# Altium footprint library Diod.PcbLib: 392 footprints (part 15 of 25)
Each footprint in its own frame and in the unit in brackets; x right, y up, seen from the top. Pads: shape width x height; smd on the part's side, far side on the other; paste and mask are expansions set on the pad; w line width, h text height; cw(c..) or ccw(c..) is an arc to the next point about the centre after c.
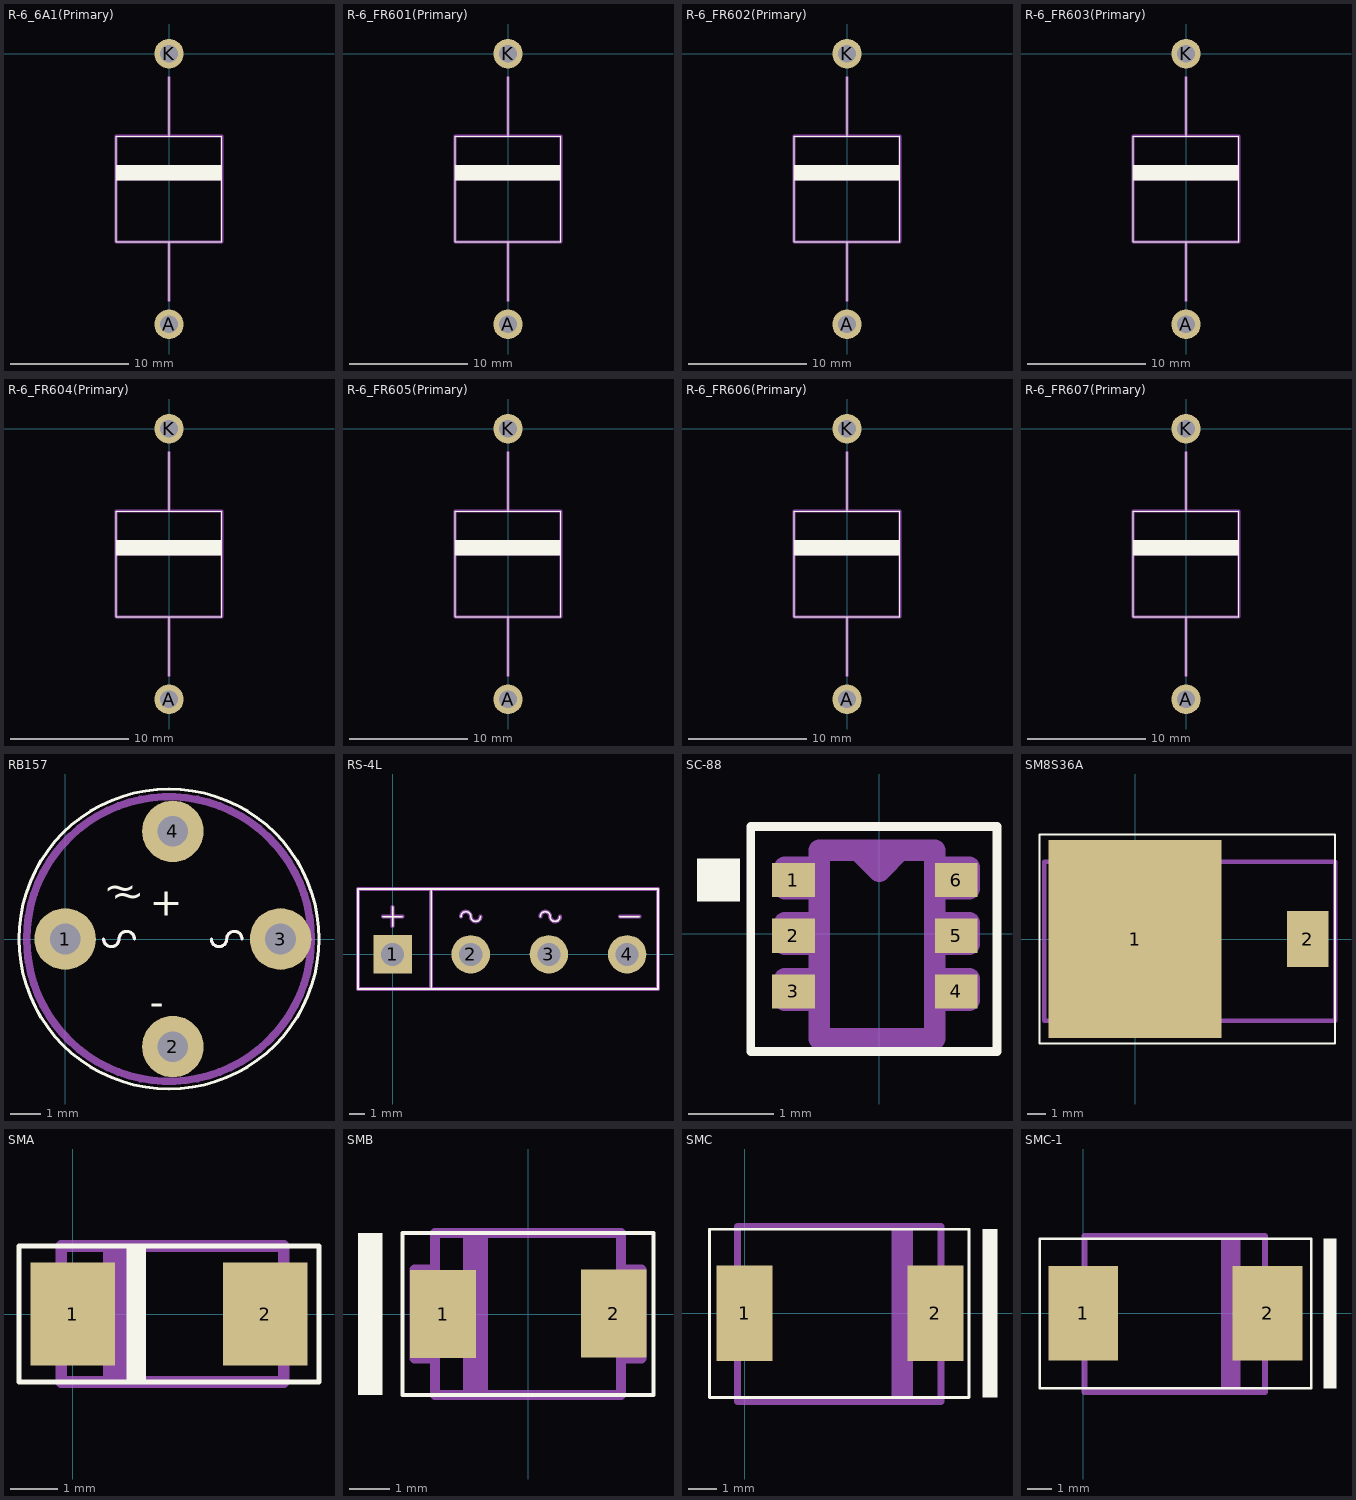
[diagram p14: the footprints below, top view; thin cyan lines are the x and y axes]

## R-6_6A1(Primary) [mm]
pads (2):
  round 2.5 hole 1.5: A(0,-23) K(0,0)
Top Overlay:
  region: -4.5,-10.75 4.5,-10.75 4.5,-9.5 -4.5,-9.5
  lines w0.1: 0,-21 0,-16 ; 0,-7 0,-2 ; -4.5,-16 4.5,-16 4.5,-7 -4.5,-7 -4.5,-16
Mechanical 1:
  region: -4.5,-10.75 4.5,-10.75 4.5,-9.5 -4.5,-9.5
  lines w0.25: 0,-21 0,-16 ; 0,-7 0,-2 ; -4.5,-16 4.5,-16 4.5,-7 -4.5,-7 -4.5,-16

## R-6_FR601(Primary) [mm]
pads (2):
  round 2.5 hole 1.5: A(0,-23) K(0,0)
Top Overlay:
  region: -4.5,-10.75 4.5,-10.75 4.5,-9.5 -4.5,-9.5
  lines w0.1: 0,-21 0,-16 ; 0,-7 0,-2 ; -4.5,-16 4.5,-16 4.5,-7 -4.5,-7 -4.5,-16
Mechanical 1:
  region: -4.5,-10.75 4.5,-10.75 4.5,-9.5 -4.5,-9.5
  lines w0.25: 0,-21 0,-16 ; 0,-7 0,-2 ; -4.5,-16 4.5,-16 4.5,-7 -4.5,-7 -4.5,-16

## R-6_FR602(Primary) [mm]
pads (2):
  round 2.5 hole 1.5: A(0,-23) K(0,0)
Top Overlay:
  region: -4.5,-10.75 4.5,-10.75 4.5,-9.5 -4.5,-9.5
  lines w0.1: 0,-21 0,-16 ; 0,-7 0,-2 ; -4.5,-16 4.5,-16 4.5,-7 -4.5,-7 -4.5,-16
Mechanical 1:
  region: -4.5,-10.75 4.5,-10.75 4.5,-9.5 -4.5,-9.5
  lines w0.25: 0,-21 0,-16 ; 0,-7 0,-2 ; -4.5,-16 4.5,-16 4.5,-7 -4.5,-7 -4.5,-16

## R-6_FR603(Primary) [mm]
pads (2):
  round 2.5 hole 1.5: A(0,-23) K(0,0)
Top Overlay:
  region: -4.5,-10.75 4.5,-10.75 4.5,-9.5 -4.5,-9.5
  lines w0.1: 0,-21 0,-16 ; 0,-7 0,-2 ; -4.5,-16 4.5,-16 4.5,-7 -4.5,-7 -4.5,-16
Mechanical 1:
  region: -4.5,-10.75 4.5,-10.75 4.5,-9.5 -4.5,-9.5
  lines w0.25: 0,-21 0,-16 ; 0,-7 0,-2 ; -4.5,-16 4.5,-16 4.5,-7 -4.5,-7 -4.5,-16

## R-6_FR604(Primary) [mm]
pads (2):
  round 2.5 hole 1.5: A(0,-23) K(0,0)
Top Overlay:
  region: -4.5,-10.75 4.5,-10.75 4.5,-9.5 -4.5,-9.5
  lines w0.1: 0,-21 0,-16 ; 0,-7 0,-2 ; -4.5,-16 4.5,-16 4.5,-7 -4.5,-7 -4.5,-16
Mechanical 1:
  region: -4.5,-10.75 4.5,-10.75 4.5,-9.5 -4.5,-9.5
  lines w0.25: 0,-21 0,-16 ; 0,-7 0,-2 ; -4.5,-16 4.5,-16 4.5,-7 -4.5,-7 -4.5,-16

## R-6_FR605(Primary) [mm]
pads (2):
  round 2.5 hole 1.5: A(0,-23) K(0,0)
Top Overlay:
  region: -4.5,-10.75 4.5,-10.75 4.5,-9.5 -4.5,-9.5
  lines w0.1: 0,-21 0,-16 ; 0,-7 0,-2 ; -4.5,-16 4.5,-16 4.5,-7 -4.5,-7 -4.5,-16
Mechanical 1:
  region: -4.5,-10.75 4.5,-10.75 4.5,-9.5 -4.5,-9.5
  lines w0.25: 0,-21 0,-16 ; 0,-7 0,-2 ; -4.5,-16 4.5,-16 4.5,-7 -4.5,-7 -4.5,-16

## R-6_FR606(Primary) [mm]
pads (2):
  round 2.5 hole 1.5: A(0,-23) K(0,0)
Top Overlay:
  region: -4.5,-10.75 4.5,-10.75 4.5,-9.5 -4.5,-9.5
  lines w0.1: 0,-21 0,-16 ; 0,-7 0,-2 ; -4.5,-16 4.5,-16 4.5,-7 -4.5,-7 -4.5,-16
Mechanical 1:
  region: -4.5,-10.75 4.5,-10.75 4.5,-9.5 -4.5,-9.5
  lines w0.25: 0,-21 0,-16 ; 0,-7 0,-2 ; -4.5,-16 4.5,-16 4.5,-7 -4.5,-7 -4.5,-16

## R-6_FR607(Primary) [mm]
pads (2):
  round 2.5 hole 1.5: A(0,-23) K(0,0)
Top Overlay:
  region: -4.5,-10.75 4.5,-10.75 4.5,-9.5 -4.5,-9.5
  lines w0.1: 0,-21 0,-16 ; 0,-7 0,-2 ; -4.5,-16 4.5,-16 4.5,-7 -4.5,-7 -4.5,-16
Mechanical 1:
  region: -4.5,-10.75 4.5,-10.75 4.5,-9.5 -4.5,-9.5
  lines w0.25: 0,-21 0,-16 ; 0,-7 0,-2 ; -4.5,-16 4.5,-16 4.5,-7 -4.5,-7 -4.5,-16

## RB157 [mm]
pads (4):
  round 2 hole 1: 1(0,0) 2(3.5,-3.5) 3(7,0) 4(3.5,3.5)
Top Overlay:
  lines w0.1: 1.25,0 ccw(c1.5,0) 1.75,0 cw(c2,0) 2.25,0 ; 4.75,0 ccw(c5,0) 5.25,0 cw(c5.5,0) 5.75,0 ; -1.5,0 cw(c3.375,0) 8.25,0 cw(c3.375,0) -1.5,0
  text "+" at 2.75,0.75 h0.94
  text "-" at 2.75,-2.5 h0.94
  text "~" at 1.25,1.25 h0.94
  text "~" at 1.5,1 h0.94
Mechanical 1:
  lines w0.1: 1.25,0 ccw(c1.5,0) 1.75,0 cw(c2,0) 2.25,0 ; 4.75,0 ccw(c5,0) 5.25,0 cw(c5.5,0) 5.75,0
  lines w0.25: -1.25,0 cw(c3.375,0) 8,0 cw(c3.375,0) -1.25,0
  text "+" at 2.75,0.75 h0.94
  text "-" at 2.75,-2.5 h0.94

## RS-4L [mm]
pads (4):
  rect 2.5x2.5 hole 1.5: 1(0,0)
  round 2.5 hole 1.5: 2(5.08,0) 3(10.16,0) 4(15.24,0)
Top Overlay:
  lines w0.1: -0.635,2.46 0.635,2.46 ; 0,1.825 0,3.095 ; 2.5,-2.25 2.5,4.25 ; 4.445,2.46 cw(c4.763,2.46) 5.08,2.46 ccw(c5.397,2.46) 5.715,2.46 ; 9.605,2.46 cw(c9.922,2.46) 10.24,2.46 ccw(c10.557,2.46) 10.875,2.46 ; 14.775,2.46 16.045,2.46 ; -2.25,-2.25 17.25,-2.25 17.25,4.25 -2.25,4.25 -2.25,-2.25
Mechanical 1:
  lines w0.25: -0.635,2.46 0.635,2.46 ; 0,1.825 0,3.095 ; 2.5,-2.25 2.5,4.25 ; 4.445,2.46 cw(c4.763,2.46) 5.08,2.46 ccw(c5.397,2.46) 5.715,2.46 ; 9.605,2.46 cw(c9.922,2.46) 10.24,2.46 ccw(c10.557,2.46) 10.875,2.46 ; 14.775,2.46 16.045,2.46 ; -2.25,-2.25 17.25,-2.25 17.25,4.25 -2.25,4.25 -2.25,-2.25

## SC-88 [mm]
pads (6):
  rect 0.5x0.4 smd: 1(-1,0.625) 2(-1,-0.025) 3(-1,-0.675) 4(0.9,-0.675) 5(0.9,-0.025) 6(0.9,0.625)
Top Overlay:
  region: -2.125,0.875 -2.125,0.375 -1.625,0.375 -1.625,0.875
  lines w0.1: -1.5,-1.375 1.375,-1.375 1.375,1.25 -1.5,1.25 -1.5,-1.375
Mechanical 1:
  lines w0.25: -0.7,-0.775 -1.1,-0.775 -1.1,-0.525 -0.7,-0.525 ; -0.7,-0.125 -1.1,-0.125 -1.1,0.125 -0.7,0.125 ; -0.7,0.525 -1.1,0.525 -1.1,0.775 -0.7,0.775 ; -0.25,0.975 0,0.725 0.25,0.975 ; 0.65,-0.775 1.05,-0.775 1.05,-0.525 0.65,-0.525 ; 0.65,-0.125 1.05,-0.125 1.05,0.125 0.65,0.125 ; 0.65,0.525 1.05,0.525 1.05,0.775 0.65,0.775 ; -0.7,-1.225 0.65,-1.225 0.65,0.975 -0.7,0.975 -0.7,-1.225

## SM8S36A [mm]
pads (2):
  rect 9.5x10.9 smd: 1(0,0)
  rect 2.3x3.1 smd: 2(9.5,0)
Top Overlay:
  lines w0.1: -5.25,-5.75 11,-5.75 11,5.75 -5.25,5.75 -5.25,-5.75
Mechanical 1:
  lines w0.25: -5,-4.5 11,-4.5 11,4.25 -5,4.25 -5,-4.5

## SMA [mm]
pads (2):
  rect 1.8x2.2 smd: 1(0,0) 2(4.1,0)
Top Overlay:
  region: 1.55,-1.45 1.55,1.45 1.15,1.45 1.15,-1.45
  lines w0.1: -1.15,-1.45 5.25,-1.45 5.25,1.45 -1.15,1.45 -1.15,-1.45
Mechanical 1:
  region: 0.65,-1.45 1.3,-1.45 1.3,1.45 0.65,1.45
  lines w0.25: -0.25,-1.45 4.5,-1.45 4.5,1.45 -0.25,1.45 -0.25,-1.45

## SMB [mm]
pads (2):
  rect 1.62x2.18 smd: 1(-2.11,0) 2(2.11,0.01)
Top Overlay:
  region: -4.21,2 -4.21,-2 -3.61,-2 -3.61,2
  lines w0.1: -3.11,-2 1.19,-2 3.09,-2 3.09,2 -3.11,2 -3.11,-2
Mechanical 1:
  region: -1.61,-2 -1.01,-2 -1.01,2 -1.61,2
  lines w0.25: -2.31,-1.1 -2.81,-1.1 -2.81,1.1 -2.31,1.1 ; 2.29,-1.1 2.79,-1.1 2.79,1.1 2.29,1.1 ; -2.31,-2 2.29,-2 2.29,2 -2.31,2 -2.31,-2

## SMC [mm]
pads (2):
  rect 2x3.4 smd: 1(0,0) 2(6.8,0)
Top Overlay:
  region: 8.5,3 8.5,-3 9,-3 9,3
  lines w0.1: -1.25,-3 8,-3 8,3 -1.25,3 -1.25,-3
Mechanical 1:
  region: 5.25,3 5.25,-3 6,-3 6,3
  lines w0.25: -0.25,-3.15 7,-3.15 7,3.1 -0.25,3.1 -0.25,-3.15

## SMC-1 [mm]
pads (2):
  rect 2.8x3.8 smd: 1(0,0) 2(7.4,0)
Top Overlay:
  region: 9.65,3 9.65,-3 10.15,-3 10.15,3
  lines w0.1: -1.75,-3 9.15,-3 9.15,3 -1.75,3 -1.75,-3
Mechanical 1:
  region: 5.55,3 5.55,-3 6.3,-3 6.3,3
  lines w0.25: 0.05,-3.15 7.3,-3.15 7.3,3.1 0.05,3.1 0.05,-3.15